# Altium schematic symbol library IC_Texas_Instruments_SN74AVC2T244DQMR_eec.SchLib: 1 symbol
Pins are listed as number, name and electrical type; pins without a type are passive.

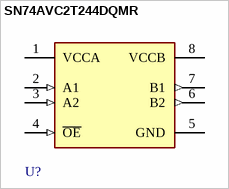
[diagram p0: symbol SN74AVC2T244DQMR]

## SN74AVC2T244DQMR
designator U?  (value not drawn)
pins: 1 VCCA (power), 2 A1 (in), 3 A2 (in), 4 ~{OE} (in), 5 GND (power), 6 B2 (out), 7 B1 (out), 8 VCCB (power)